# Altium schematic symbol library MTC1S1205MC.SchLib: 1 symbol
Pins are listed as number, name and electrical type; pins without a type are passive.

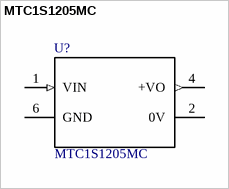
[diagram p0: symbol MTC1S1205MC]

## MTC1S1205MC
designator U?
Value: *
footprint MTC1S1205MC
pins: 1 VIN (in), 2 0V (power), 4 +VO (out), 6 GND (power)